# EAGLE library part 691310340007 (library Wurth_Connectors_WR-TBL Pluggable Connector)
WR-TBL Serie 3103 - 3.81 mm Horizontal PCB Header with Flanges KIND PROPERTIES Pitch 3.81 mm MATERIAL PROPERTIES Insulator Material PA66 Insulator Flammability Rating UL94 V-0 Contact Material Copper Alloy Contact Plating Tin Contact Type Stamped GENERAL INFORMATION Operating Temperature -40 up to +115 °C Compliance RoHS ELECTRICAL PROPERTIES IR UL 8 A Working Voltage [UL] 300 V (AC) Withstanding Voltage [cULus] 1600 V (AC) Contact Resistance [cULus] 20 mΩ CERTIFICATION UL Approval E315414 <https://www.we-online.com/catalog/media/o60781v209%20Family_TBL_3_81_3103_HORIZONTAL_PCB_HEADER_W_FLANGES_6913103400XX.jpg> Details see: https://www.we-online.com/catalog/en/TBL_3_81_3103_HORIZONTAL_PCB_HEADER_W_FLANGES_6913103400XX/ Updated by Ella Wu 2019-12-19 2022(C) Wurth Elektronik
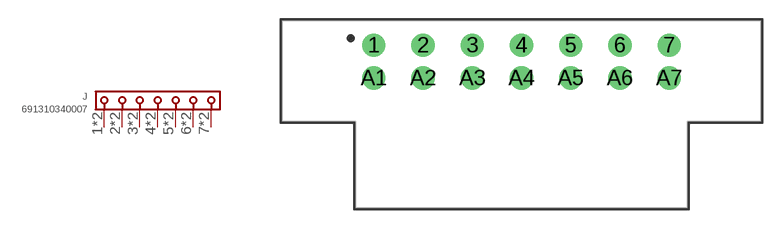
[diagram p65: symbol with the pads of 691310340007; footprint 691310340007]

Designator prefix J

## 691310340007 (DATASHEET-URL: https://www.we-online.com/redexpert/spec/691310340007?ae; IR-UL: 8A; MOUNT: THT; PART-NUMBER: 691310340007; PINS: 7; PITCH: 3.81mm; TYPE: Horizontal PCB Header; VALUE: 691310340007; WORKING-VOLTAGE-UL: 300V (AC))  [691310340007]
1  1  pas
2  2  pas
3  3  pas
4  4  pas
5  5  pas
6  6  pas
7  7  pas
A1  1  pas
A2  2  pas
A3  3  pas
A4  4  pas
A5  5  pas
A6  6  pas
A7  7  pas

## Footprint 691310340007 (pad centres in mm)
WR-TBL Serie 3103 - 3.81 mm Horizontal PCB Header with Flanges Max Height = 6.8mm , Pitch 3.81mm , 7pins
drill 1.2: 1 -11.43,1.27; 2 -7.62,1.27; 3 -3.81,1.27; 4 0,1.27; 5 3.81,1.27; 6 7.62,1.27; 7 11.43,1.27; A1 -11.43,-1.27; A2 -7.62,-1.27; A3 -3.81,-1.27; A4 0,-1.27; A5 3.81,-1.27; A6 7.62,-1.27; A7 11.43,-1.27